# Altium footprint library buzzer.PCBLIB: 39 footprints (part 1 of 3)
Each footprint in its own frame and in the unit in brackets; x right, y up, seen from the top. Pads: shape width x height; smd on the part's side, far side on the other; paste and mask are expansions set on the pad; w line width, h text height; cw(c..) or ccw(c..) is an arc to the next point about the centre after c.
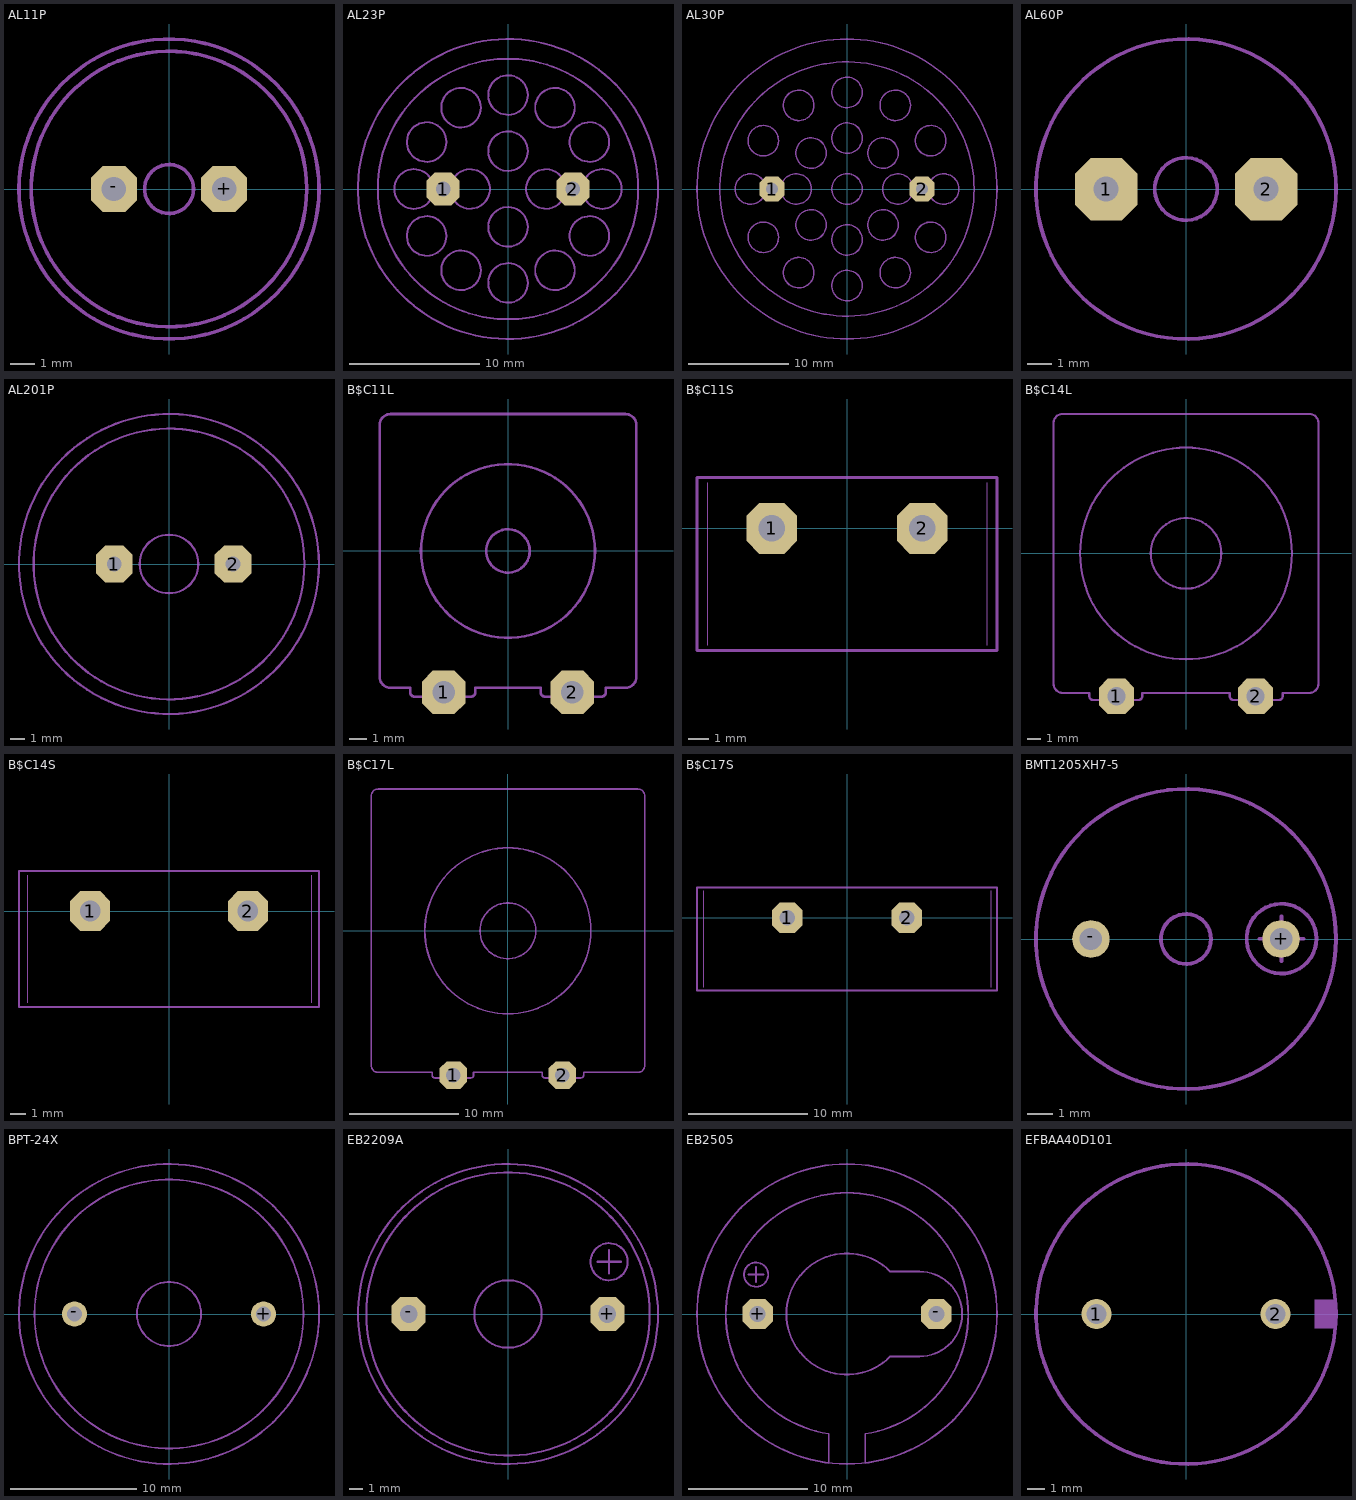
[diagram p0: the footprints below, top view; thin cyan lines are the x and y axes]

## AL11P [mil]
pads (2):
  oct 75x75 / inner round 69.29 / far side oct 75x75 hole 40: +(90,0) -(-90,0)
tPlace:
  circle w6: c0,0 r225
  circle w6: c0,0 r245
  circle w6: c0,0 r40

## AL23P [mil]
pads (2):
  oct 100x100 / inner round 92.39 / far side oct 100x100 hole 44: 1(-197,0) 2(197,0)
tDocu:
  lines w6: -241,-40.79 ccw(c-285,0) -241,40.79 ; -156,-43.81 cw(c-115,0) -156,43.81 ; 156,-43.81 ccw(c115,0) 156,43.81 ; 241,-40.79 cw(c285,0) 241,40.79
tPlace:
  circle w6: c0,0 r395
  circle w6: c0,0 r455
  circle w6: c0,115 r60
  circle w6: c0,-115 r60
  circle w6: c0,-285 r60
  circle w6: c0,285 r60
  circle w6: c-142.5,-246.82 r60
  circle w6: c-246.82,-142.5 r60
  circle w6: c-142.5,246.82 r60
  circle w6: c-246.82,142.5 r60
  circle w6: c142.5,-246.82 r60
  circle w6: c246.82,-142.5 r60
  circle w6: c246.82,142.5 r60
  circle w6: c142.5,246.82 r60
  lines w6: -241,-40.79 cw(c-285,0) -241,40.79 ; -156,-43.81 ccw(c-115,0) -156,43.81 ; 156,-43.81 cw(c115,0) 156,43.81 ; 241,-40.79 ccw(c285,0) 241,40.79

## AL30P [mil]
pads (2):
  oct 100x100 / inner round 92.39 / far side oct 100x100 hole 47: 1(-295,0) 2(295,0)
tDocu:
  lines w6: -337.5,-42.35 ccw(c-380,0) -337.5,42.35 ; -247.5,-36.66 cw(c-200,0) -247.5,36.66 ; 247.5,-36.66 ccw(c200,0) 247.5,36.66 ; 337.5,-42.35 cw(c380,0) 337.5,42.35
tPlace:
  circle w6: c0,0 r590
  circle w6: c0,0 r500
  circle w6: c0,0 r60
  circle w6: c0,200 r60
  circle w6: c0,-200 r60
  circle w6: c0,380 r60
  circle w6: c0,-380 r60
  circle w6: c-329.09,-190 r60
  circle w6: c-190,-329.09 r60
  circle w6: c-141.42,-141.42 r60
  circle w6: c-329.09,190 r60
  circle w6: c-190,329.09 r60
  circle w6: c-141.42,141.42 r60
  circle w6: c329.09,-190 r60
  circle w6: c190,-329.09 r60
  circle w6: c141.42,-141.42 r60
  circle w6: c190,329.09 r60
  circle w6: c141.42,141.42 r60
  circle w6: c329.09,190 r60
  lines w6: -337.5,-42.35 cw(c-380,0) -337.5,42.35 ; -247.5,-36.66 ccw(c-200,0) -247.5,36.66 ; 247.5,-36.66 cw(c200,0) 247.5,36.66 ; 337.5,-42.35 ccw(c380,0) 337.5,42.35

## AL60P [mil]
pads (2):
  oct 100x100 / inner round 92.39 / far side oct 100x100 hole 40: 1(-128,0) 2(128,0)
tPlace:
  circle w6: c0,0 r240
  circle w6: c0,0 r50

## AL201P [mil]
pads (2):
  oct 100x100 / inner round 92.39 / far side oct 100x100 hole 40: 1(-150,0) 2(175,0)
tPlace:
  circle w6: c0,0 r80
  circle w6: c0,0 r370
  circle w6: c0,0 r410

## B$C11L [mil]
pads (2):
  oct 100x100 / inner round 92.39 / far side oct 100x100 hole 52: 1(-148,-325) 2(148,-325)
tDocu:
  lines w6: -207.17,-335 -185,-335 ccw(c-185,-325) -175,-325 ; -88.86,-335 -115,-335 cw(c-115,-325) -125,-325 ; 88.86,-335 115,-335 ccw(c115,-325) 125,-325 ; 207.17,-335 185,-335 cw(c185,-325) 175,-325 ; -175,-325 cw(c-165,-325) -165,-315 -135,-315 cw(c-135,-325) -125,-325 ; -175,-325 -175,-340 ccw(c-165,-340) -165,-350 -135,-350 ccw(c-135,-340) -125,-340 -125,-325 ; 125,-325 cw(c135,-325) 135,-315 165,-315 cw(c165,-325) 175,-325 ; 125,-325 125,-340 ccw(c135,-340) 135,-350 165,-350 ccw(c165,-340) 175,-340 175,-325
tPlace:
  circle w6: c0,0 r200
  circle w6: c0,0 r50
  lines w6: -207.17,-335 -215,-335 cw(c-215,-325) -225,-325 -225,-315 -270,-315 cw(c-270,-290) -295,-290 -295,290 cw(c-270,290) -270,315 270,315 cw(c270,290) 295,290 295,-290 cw(c270,-290) 270,-315 225,-315 225,-325 cw(c215,-325) 215,-335 207.17,-335 ; -88.86,-335 -85,-335 ccw(c-85,-325) -75,-325 -75,-315 75,-315 75,-325 ccw(c85,-325) 85,-335 88.86,-335

## B$C11S [mil]
pads (2):
  oct 100x100 / inner round 92.39 / far side oct 100x100 hole 52: 1(-148,0) 2(148,0)
tPlace:
  lines w2: -275,-230 -275,90 ; 275,-230 275,90
  lines w6: -295,-240 295,-240 295,100 -295,100 -295,-240

## B$C14L [mil]
pads (2):
  oct 100x100 / inner round 92.39 / far side oct 100x100 hole 52: 1(-197,-405) 2(197,-405)
tDocu:
  lines w6: -256.18,-415 -234,-415 ccw(c-234,-405) -224,-405 ; -137.83,-415 -164,-415 cw(c-164,-405) -174,-405 ; 137.83,-415 164,-415 ccw(c164,-405) 174,-405 ; 256.18,-415 234,-415 cw(c234,-405) 224,-405 ; -224,-405 cw(c-214,-405) -214,-395 -184,-395 cw(c-184,-405) -174,-405 ; -224,-405 -224,-420 ccw(c-214,-420) -214,-430 -184,-430 ccw(c-184,-420) -174,-420 -174,-405 ; 174,-405 cw(c184,-405) 184,-395 214,-395 cw(c214,-405) 224,-405 ; 174,-405 174,-420 ccw(c184,-420) 184,-430 214,-430 ccw(c214,-420) 224,-420 224,-405
tPlace:
  circle w6: c0,0 r300
  circle w6: c0,0 r100
  lines w6: -256.18,-415 -264,-415 cw(c-264,-405) -274,-405 -274,-395 -350,-395 cw(c-350,-370) -375,-370 -375,370 cw(c-350,370) -350,395 350,395 cw(c350,370) 375,370 375,-370 cw(c350,-370) 350,-395 274,-395 274,-405 cw(c264,-405) 264,-415 256.18,-415 ; -137.83,-415 -134,-415 ccw(c-134,-405) -124,-405 -124,-395 124,-395 124,-405 ccw(c134,-405) 134,-415 137.83,-415

## B$C14S [mil]
pads (2):
  oct 100x100 / inner round 92.39 / far side oct 100x100 hole 52: 1(-197,0) 2(197,0)
tPlace:
  lines w2: -355,-230 -355,90 ; 355,-230 355,90
  lines w6: -375,-240 375,-240 375,100 -375,100 -375,-240

## B$C17L [mil]
pads (2):
  oct 100x100 / inner round 92.39 / far side oct 100x100 hole 52: 1(-197,-522) 2(197,-522)
tDocu:
  lines w6: -256.18,-532.01 -234,-532 ccw(c-234,-522) -224,-522 ; -137.83,-532.01 -164,-532 cw(c-164,-522) -174,-522 ; 137.83,-532.01 164,-532 ccw(c164,-522) 174,-522 ; 256.18,-532.01 234,-532 cw(c234,-522) 224,-522 ; -224,-522 cw(c-214,-522) -214,-512 -184,-512 cw(c-184,-522) -174,-522 ; -224,-522 -224,-537 ccw(c-214,-537) -214,-547 -184,-547 ccw(c-184,-537) -174,-537 -174,-522 ; 174,-522 cw(c184,-522) 184,-512 214,-512 cw(c214,-522) 224,-522 ; 174,-522 174,-537 ccw(c184,-537) 184,-547 214,-547 ccw(c214,-537) 224,-537 224,-522
tPlace:
  circle w6: c0,0 r300
  circle w6: c0,0 r101
  lines w6: -256.18,-532.01 -264,-532 cw(c-264,-522) -274,-522 -274,-512 -469,-512 cw(c-469,-487) -494,-487 -494,488 cw(c-469,488) -469,513 470,513 cw(c470,488) 495,488 495,-487 cw(c470,-487) 470,-512 274,-512 274,-522 cw(c264,-522) 264,-532 256.18,-532.01 ; -137.83,-532.01 -134,-532 ccw(c-134,-522) -124,-522 -124,-512 124,-512 124,-522 ccw(c134,-522) 134,-532 137.83,-532.01

## B$C17S [mil]
pads (2):
  oct 100x100 / inner round 92.39 / far side oct 100x100 hole 52: 1(-197,0) 2(197,0)
tPlace:
  lines w2: -475,-230 -475,90 ; 475,-230 475,90
  lines w6: -495,-240 495,-240 495,100 -495,100 -495,-240

## BMT1205XH7-5 [mil]
pads (2):
  round 59.06 hole 35.43: +(149.61,0) -(-149.61,0)
tDocu:
  lines w6: 115.39,0.47 185.39,0.47 ; 150.39,-34.53 150.39,35.47
tPlace:
  circle w6: c0,0 r236.22
  circle w6: c0,0 r39.37
  circle w6: c150.39,0.47 r55

## BPT-24X [mm]
pads (2):
  round 2 hole 1.2: +(7.5,0) -(-7.5,0)
tPlace:
  circle w0.152: c0,0 r11.9
  circle w0.152: c0,0 r10.668
  circle w0.152: c0,0 r2.54

## EB2209A [mil]
pads (2):
  oct 100x100 / inner round 92.39 / far side oct 100x100 hole 52: +(295,0) -(-295,0)
tPlace:
  circle w6: c0,0 r445
  circle w6: c0,0 r420
  circle w6: c0,0 r100
  circle w6: c300,155 r55
  lines w6: 265,155 335,155 ; 300,120 300,190

## EB2505 [mil]
pads (2):
  oct 100x100 / inner round 92.39 / far side oct 100x100 hole 52: +(-295,0) -(295,0)
tPlace:
  circle w6: c0,0 r495
  circle w6: c-300,130 r40
  lines w6: -325,130 -275,130 ; -300,105 -300,155 ; -60,-491.34 -60,-395.47 cw(c0,0.01) 60,-395.47 60,-491.34 ; 142.83,-140 cw(c0,0) 142.83,140 240,140 cw(c240,0) 240,-140 142.83,-140

## EFBAA40D101 [mil]
pads (2):
  round 66 hole 43.31: 1(-196.85,0) 2(196.85,0)
tPlace:
  circle w8: c0,0 r329.72
  region: 283.46,-31.5 283.46,31.5 329.72,31.5 329.72,-31.5